# EAGLE library part L9110 (library L9110h)
Each chip contains one full H-bridges (two half H-bridges). That means you can drive 2 solenoids or a single DC motors bi-directionally. Just make sure they're good for under 800 mA since that's the limit of this chip. They do handle a peak of 1.5A but that's just for a short amount of time. What we like most about this particular driver is that it comes with built in kick-back diodes internally so you don't have to worry about the inductive kick damaging your project or driver! There's a PWM input per driver so you can control motor speed and direction. Good for motor power voltages from 2.5V up to 12V! This chip doesn't have split logic/power pins, but it seems that you can use 3.3V logic level with higher voltages no problem - we controlled a 9V motor setup with a Feather running at 3.3V. Datasheet @ https://cdn-shop.adafruit.com/product-files/4489/4489_datasheet-l9110.pdf
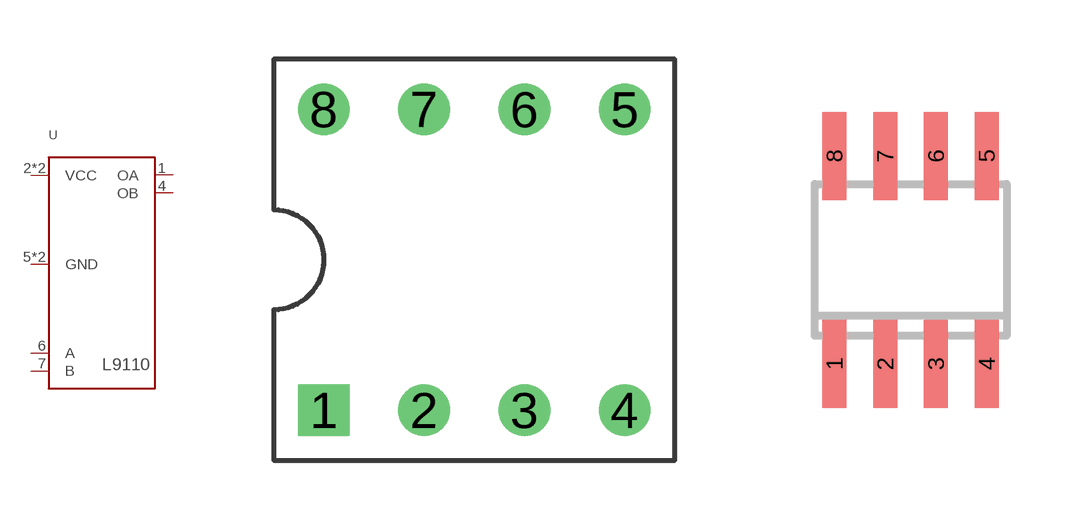
[diagram p0: symbol with the pads of DIP8; footprints DIP8, SOP8]

Designator prefix -

## L9110DP  [DIP8]
1  OA
2  VCC
3  VCC
4  OB
5  GND
6  A
7  B
8  GND

## L9110SO  [SOP8]
Pads as for DIP8

## Footprint DIP8 (pad centres in mm)
drill 0.8 square: 1 -3.81,-3.81
drill 0.8: 2 -1.27,-3.81; 3 1.27,-3.81; 4 3.81,-3.81; 5 3.81,3.81; 6 1.27,3.81; 7 -1.27,3.81; 8 -3.81,3.81

## Footprint SOP8 (pad centres in mm)
smd 0.6 x 2.2: 1 -1.905,-2.6; 2 -0.635,-2.6; 3 0.635,-2.6; 4 1.905,-2.6; 5 1.905,2.6; 6 0.635,2.6; 7 -0.635,2.6; 8 -1.905,2.6